# Altium footprint library SMD-Q  0607.PcbLib: 73 footprints (part 3 of 5)
Each footprint in its own frame and in the unit in brackets; x right, y up, seen from the top. Pads: shape width x height; smd on the part's side, far side on the other; paste and mask are expansions set on the pad; w line width, h text height; cw(c..) or ccw(c..) is an arc to the next point about the centre after c.
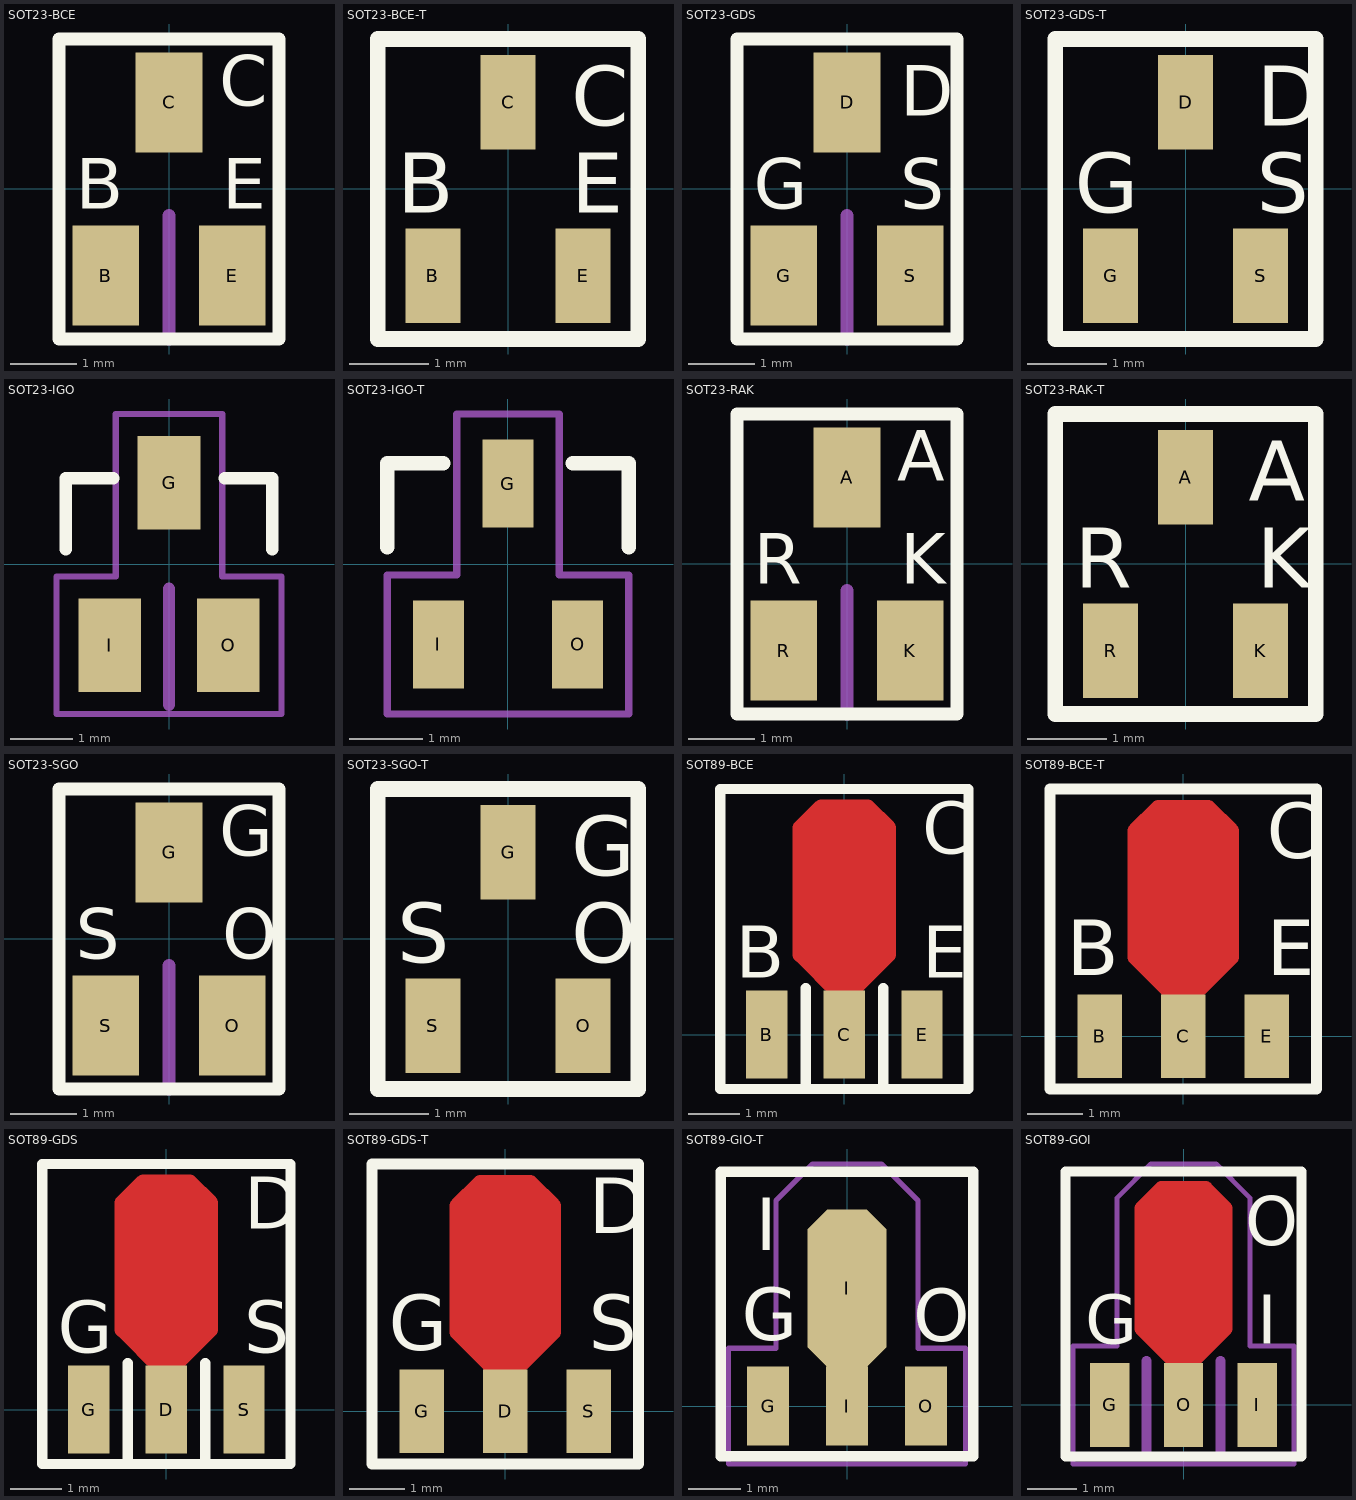
[diagram p2: the footprints below, top view; thin cyan lines are the x and y axes]

## SOT23-BCE [mm]
height 1.11
pads (3):
  rect 1x1.5 smd: B(-0.95,-1.3) C(0,1.3) E(0.95,-1.3)
Top Overlay:
  lines w0.2: -1.65,-2.25 -1.65,2.25 1.65,2.25 1.65,-2.25 -1.65,-2.25
  text "B" at -1.4,-0.3 h0.76
  text "C" at 0.75,1.25 h0.76
  text "E" at 0.8,-0.3 h0.76
Mechanical 9:
  lines w0.2: 0,-2.25 0,-0.4

## SOT23-BCE-T [mm]
height 1.11
pads (3):
  rect 0.7x1.2 smd: B(-0.95,-1.1) C(0,1.1) E(0.95,-1.1)
Top Overlay:
  lines w0.2: -1.65,-1.9 1.65,-1.9 1.65,1.9 -1.65,1.9 -1.65,-1.9
  text "B" at -1.4,-0.3 h0.76
  text "C" at 0.8,0.8 h0.76
  text "E" at 0.8,-0.3 h0.76

## SOT23-GDS [mm]
height 1.11
pads (3):
  rect 1x1.5 smd: D(0,1.3) G(-0.95,-1.3) S(0.95,-1.3)
Top Overlay:
  lines w0.2: -1.65,-2.25 1.65,-2.25 1.65,2.25 -1.65,2.25 -1.65,-2.25
  text "S" at 0.8,-0.3 h0.76
  text "D" at 0.8,1.1 h0.76
  text "G" at -1.4,-0.3 h0.76
Mechanical 9:
  lines w0.2: 0,-2.25 0,-0.4

## SOT23-GDS-T [mm]
height 1.11
pads (3):
  rect 0.7x1.2 smd: D(0,1.1) G(-0.95,-1.1) S(0.95,-1.1)
Top Overlay:
  lines w0.2: -1.65,-1.9 1.65,-1.9 1.65,1.9 -1.65,1.9 -1.65,-1.9
  text "G" at -1.4,-0.3 h0.76
  text "D" at 0.9,0.8 h0.76
  text "S" at 0.9,-0.3 h0.76

## SOT23-IGO [mm]
height 1.11
pads (3):
  rect 1x1.5 smd: G(0,1.3) I(-0.95,-1.3) O(0.95,-1.3)
Top Overlay:
  lines w0.2: -1.65,0.232 -1.65,1.375 -0.889,1.375 ; 0.889,1.375 1.65,1.375 1.65,0.232
Mechanical 9:
  lines w0.2: 0,-2.25 0,-0.4
Mechanical 16:
  lines w0.1: -1.8,-2.4 1.8,-2.4 1.8,-0.2 0.85,-0.2 0.85,2.4 -0.85,2.4 -0.85,-0.2 -1.8,-0.2 -1.8,-2.4

## SOT23-IGO-T [mm]
height 1.11
pads (3):
  rect 0.7x1.2 smd: G(0,1.1) I(-0.95,-1.1) O(0.95,-1.1)
Top Overlay:
  lines w0.2: -1.65,0.232 -1.65,1.375 -0.889,1.375 ; 0.889,1.375 1.65,1.375 1.65,0.232
Mechanical 15:
  lines w0.1: -1.65,-2.05 1.65,-2.05 1.65,-0.15 0.7,-0.15 0.7,2.05 -0.7,2.05 -0.7,-0.15 -1.65,-0.15 -1.65,-2.05

## SOT23-RAK [mm]
height 1.11
pads (3):
  rect 1x1.5 smd: A(0,1.3) K(0.95,-1.3) R(-0.95,-1.3)
Top Overlay:
  lines w0.2: -1.65,-2.25 1.65,-2.25 1.65,2.25 -1.65,2.25 -1.65,-2.25
  text "K" at 0.8,-0.3 h0.76
  text "A" at 0.75,1.25 h0.76
  text "R" at -1.4,-0.3 h0.76
Mechanical 9:
  lines w0.2: 0,-2.25 0,-0.4

## SOT23-RAK-T [mm]
height 1.11
pads (3):
  rect 0.7x1.2 smd: A(0,1.1) K(0.95,-1.1) R(-0.95,-1.1)
Top Overlay:
  lines w0.2: -1.65,-1.9 1.65,-1.9 1.65,1.9 -1.65,1.9 -1.65,-1.9
  text "R" at -1.4,-0.3 h0.76
  text "A" at 0.8,0.8 h0.76
  text "K" at 0.9,-0.3 h0.76

## SOT23-SGO [mm]
height 1.11
pads (3):
  rect 1x1.5 smd: G(0,1.3) O(0.95,-1.3) S(-0.95,-1.3)
Top Overlay:
  lines w0.2: -1.65,-2.25 -1.65,2.25 1.65,2.25 1.65,-2.25 -1.65,-2.25
  text "S" at -1.4,-0.3 h0.76
  text "G" at 0.75,1.25 h0.76
  text "O" at 0.8,-0.3 h0.76
Mechanical 9:
  lines w0.2: 0,-2.25 0,-0.4

## SOT23-SGO-T [mm]
height 1.11
pads (3):
  rect 0.7x1.2 smd: G(0,1.1) O(0.95,-1.1) S(-0.95,-1.1)
Top Overlay:
  lines w0.2: -1.65,-1.9 1.65,-1.9 1.65,1.9 -1.65,1.9 -1.65,-1.9
  text "S" at -1.4,-0.3 h0.76
  text "G" at 0.8,0.8 h0.76
  text "O" at 0.8,-0.3 h0.76

## SOT89-BCE [mm]
height 1.6
pads (3):
  rect 0.8x1.7 smd: B(-1.5,0) C(0,0) E(1.5,0)
Top Layer:
  lines w0.3: -0.75,4 -0.75,1.45 -0.1,0.8 ; -0.1,0.8 0.1,0.8 0.85,1.55 0.85,4 0.45,4.4 -0.45,4.4 -0.85,4 -0.85,1.55 -0.1,0.8
  lines w0.5: -0.45,1.425 -0.45,4.125 -0.275,4.3 ; 0.3,4.3 0.6,4 0.6,1.525
  lines w1: 0.025,1.325 0.025,3.85
Top Overlay:
  lines w0.2: -0.75,-0.95 -0.75,0.9 ; 0.75,-0.95 0.75,0.9 ; -2.4,-1.05 -2.4,4.75 2.4,4.75 2.4,-1.05 -2.4,-1.05
  text "B" at -2.1,1.1 h1
  text "C" at 1.5,3.5 h1
  text "E" at 1.5,1.1 h1
Top Solder:
  lines w0.2: -0.7,2.7 -0.7,4.1 ; -0.9,2.65 0.9,2.65 0.9,4.025 0.475,4.45 -0.475,4.45 -0.9,4.025 -0.9,2.65
  lines w0.3: -0.8,2.7 -0.8,4 ; -0.6,2.7 -0.6,4.2 -0.4,4.4 -0.4,2.7 ; -0.2,2.7 -0.2,4.4 ; 0,2.7 0,4.4 ; 0.2,2.7 0.2,4.4 ; 0.4,2.7 0.4,4.4 ; 0.6,2.7 0.6,4.2 ; 0.8,2.7 0.8,4

## SOT89-BCE-T [mm]
height 1.6
pads (3):
  rect 0.8x1.5 smd: B(-1.5,0) C(0,0) E(1.5,0)
Top Layer:
  lines w0.3: -0.8,1.5 -0.8,1.4 -0.2,0.8 0.2,0.8 ; -0.75,1.35 -0.75,3.75 ; -0.5,1.1 -0.5,3.9 ; -0.3,1 -0.3,4 ; -0.25,0.825 -0.85,1.425 -0.85,3.7 -0.45,4.1 0.45,4.1 0.85,3.7 0.85,1.425 ; -0.1,0.8 -0.1,4.1 ; 0.1,0.8 0.1,4 ; 0.3,0.9 0.3,4.1 ; 0.5,1.2 0.5,3.9 ; 0.7,3.8 0.7,1.3 0.2,0.8 ; 0.8,1.4 0.2,0.8 ; 0.85,1.425 0.25,0.825 0.85,1.425
Top Overlay:
  lines w0.2: -2.4,-0.95 -2.4,4.45 2.4,4.45 2.4,-0.95 -2.4,-0.95
  text "B" at -2.1,1.1 h1
  text "C" at 1.5,3.2 h1
  text "E" at 1.5,1.1 h1
Top Solder:
  lines w0.2: -0.75,2.575 -0.75,3.875 ; -0.65,2.575 -0.65,3.875 ; -0.55,2.575 -0.55,3.875 ; -0.5,4 0.5,4 ; -0.45,2.575 -0.45,3.875 ; -0.35,2.575 -0.35,3.875 ; -0.25,2.575 -0.25,3.875 ; -0.15,2.575 -0.15,3.875 ; -0.05,2.575 -0.05,3.875 ; 0.05,2.575 0.05,3.875 ; 0.15,2.575 0.15,3.875 ; 0.25,2.575 0.25,3.875 ; 0.35,2.575 0.35,3.875 ; 0.45,2.575 0.45,3.875 ; 0.55,2.575 0.55,3.875 ; 0.65,2.575 0.65,3.875 ; 0.75,2.575 0.75,3.875 ; -0.9,2.55 0.9,2.55 0.9,3.725 0.475,4.15 -0.475,4.15 -0.9,3.725 -0.9,2.55

## SOT89-GDS [mm]
height 1.6
pads (3):
  rect 0.8x1.7 smd: D(0,0) G(-1.5,0) S(1.5,0)
Top Layer:
  lines w0.3: -0.75,4 -0.75,1.45 -0.1,0.8 ; -0.1,0.8 -0.85,1.55 -0.85,4 -0.45,4.4 0.45,4.4 0.85,4 0.85,1.55 0.1,0.8 -0.1,0.8
  lines w0.5: -0.45,1.425 -0.45,4.125 -0.275,4.3 ; 0.3,4.3 0.6,4 0.6,1.525
  lines w1: 0.025,1.325 0.025,3.85
Top Overlay:
  lines w0.2: -0.75,-0.95 -0.75,0.9 ; 0.75,-0.95 0.75,0.9 ; -2.4,-1.05 -2.4,4.75 2.4,4.75 2.4,-1.05 -2.4,-1.05
  text "G" at -2.1,1.1 h1
  text "D" at 1.5,3.5 h1
  text "S" at 1.5,1.1 h1
Top Solder:
  lines w0.2: -0.7,2.7 -0.7,4.1 ; -0.9,2.65 -0.9,4.025 -0.475,4.45 0.475,4.45 0.9,4.025 0.9,2.65 -0.9,2.65
  lines w0.3: -0.8,2.7 -0.8,4 ; -0.6,2.7 -0.6,4.2 -0.4,4.4 -0.4,2.7 ; -0.2,2.7 -0.2,4.4 ; 0,2.7 0,4.4 ; 0.2,2.7 0.2,4.4 ; 0.4,2.7 0.4,4.4 ; 0.6,2.7 0.6,4.2 ; 0.8,2.7 0.8,4

## SOT89-GDS-T [mm]
height 1.6
pads (3):
  rect 0.8x1.5 smd: D(0,0) G(-1.5,0) S(1.5,0)
Top Layer:
  lines w0.3: -0.8,1.5 -0.8,1.4 -0.2,0.8 0.2,0.8 ; -0.75,1.35 -0.75,3.75 ; -0.5,1.1 -0.5,3.9 ; -0.3,1 -0.3,4 ; -0.25,0.825 -0.85,1.425 -0.85,3.7 -0.45,4.1 0.45,4.1 0.85,3.7 0.85,1.425 ; -0.1,0.8 -0.1,4.1 ; 0.1,0.8 0.1,4 ; 0.3,0.9 0.3,4.1 ; 0.5,1.2 0.5,3.9 ; 0.7,3.8 0.7,1.3 0.2,0.8 ; 0.8,1.4 0.2,0.8 ; 0.85,1.425 0.25,0.825 0.85,1.425
Top Overlay:
  lines w0.2: -2.4,-0.95 2.4,-0.95 2.4,4.45 -2.4,4.45 -2.4,-0.95
  text "S" at 1.5,1.1 h1
  text "D" at 1.5,3.2 h1
  text "G" at -2.1,1.1 h1
Top Solder:
  lines w0.2: -0.75,2.575 -0.75,3.875 ; -0.65,2.575 -0.65,3.875 ; -0.55,2.575 -0.55,3.875 ; -0.5,4 0.5,4 ; -0.45,2.575 -0.45,3.875 ; -0.35,2.575 -0.35,3.875 ; -0.25,2.575 -0.25,3.875 ; -0.15,2.575 -0.15,3.875 ; -0.05,2.575 -0.05,3.875 ; 0.05,2.575 0.05,3.875 ; 0.15,2.575 0.15,3.875 ; 0.25,2.575 0.25,3.875 ; 0.35,2.575 0.35,3.875 ; 0.45,2.575 0.45,3.875 ; 0.55,2.575 0.55,3.875 ; 0.65,2.575 0.65,3.875 ; 0.75,2.575 0.75,3.875 ; -0.9,2.55 -0.9,3.725 -0.475,4.15 0.475,4.15 0.9,3.725 0.9,2.55 -0.9,2.55

## SOT89-GIO-T [mm]
pads (4):
  rect 0.8x1.5 smd: G(-1.5,0) I(0,0) O(1.5,0)
  oct 1.5x3 smd: I(0,2.24)
Top Overlay:
  lines w0.2: -2.4,-0.95 2.4,-0.95 2.4,4.45 -2.4,4.45 -2.4,-0.95
  text "I" at -1.73,2.96 h1
  text "O" at 1.26,1.23 h1
  text "G" at -2,1.25 h1
Mechanical 15:
  lines w0.1: -2.25,-1.1 2.25,-1.1 2.25,1.1 1.35,1.1 1.35,3.907 0.657,4.6 -0.657,4.6 -1.35,3.907 -1.35,1.1 -2.25,1.1 -2.25,-1.1

## SOT89-GOI [mm] "79XX"
height 1.6
pads (3):
  rect 0.8x1.7 smd: G(-1.5,0) I(1.5,0) O(0,0)
Top Layer:
  lines w0.3: -0.75,4 -0.75,1.45 -0.1,0.8 ; -0.1,0.8 0.1,0.8 0.85,1.55 0.85,4 0.45,4.4 -0.45,4.4 -0.85,4 -0.85,1.55 -0.1,0.8
  lines w0.5: -0.45,1.425 -0.45,4.125 -0.275,4.3 ; 0.3,4.3 0.6,4 0.6,1.525
  lines w1: 0.025,1.325 0.025,3.85
Top Overlay:
  lines w0.2: -2.4,-1.05 -2.4,4.75 2.4,4.75 2.4,-1.05 -2.4,-1.05
  text "G" at -2,1.25 h1
  text "O" at 1.25,3.25 h1
  text "I" at 1.5,1.25 h1
Top Solder:
  lines w0.2: -0.7,2.7 -0.7,4.1 ; -0.9,2.65 0.9,2.65 0.9,4.025 0.475,4.45 -0.475,4.45 -0.9,4.025 -0.9,2.65
  lines w0.3: -0.8,2.7 -0.8,4 ; -0.6,2.7 -0.6,4.2 -0.4,4.4 -0.4,2.7 ; -0.2,2.7 -0.2,4.4 ; 0,2.7 0,4.4 ; 0.2,2.7 0.2,4.4 ; 0.4,2.7 0.4,4.4 ; 0.6,2.7 0.6,4.2 ; 0.8,2.7 0.8,4
Mechanical 9:
  lines w0.2: -0.75,-0.95 -0.75,0.9 -0.75,-0.95 ; 0.75,-0.95 0.75,0.9 0.75,-0.95
Mechanical 16:
  lines w0.1: -2.25,-1.2 -2.25,1.2 -1.35,1.2 -1.35,4.213 -0.663,4.9 0.663,4.9 1.35,4.213 1.35,1.2 2.25,1.2 2.25,-1.2 -2.25,-1.2